# Altium footprint library BGM121A256V1.PcbLib: 1 footprints
Each footprint in its own frame and in the unit in brackets; x right, y up, seen from the top. Pads: shape width x height; smd on the part's side, far side on the other; paste and mask are expansions set on the pad; w line width, h text height; cw(c..) or ccw(c..) is an arc to the next point about the centre after c.
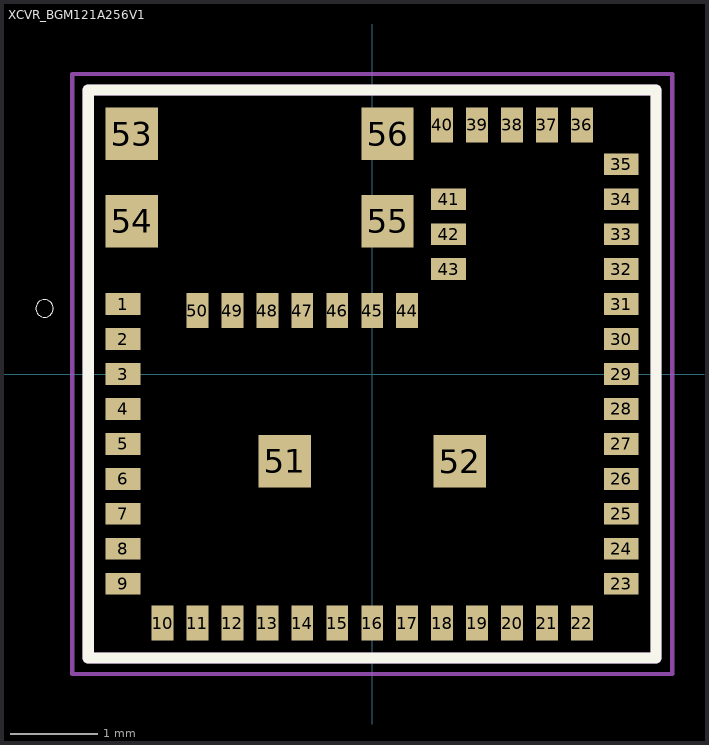
[diagram p0: the footprint, top view; thin cyan lines are the x and y axes]

## XCVR_BGM121A256V1 [mm]
pads (56):
  rect 0.4x0.25 smd: 1(-2.85,0.8) 2(-2.85,0.4) 3(-2.85,0) 4(-2.85,-0.4) 5(-2.85,-0.8) 6(-2.85,-1.2) 7(-2.85,-1.6) 8(-2.85,-2) 9(-2.85,-2.4) 23(2.85,-2.4) 24(2.85,-2) 25(2.85,-1.6) 26(2.85,-1.2) 27(2.85,-0.8) 28(2.85,-0.4) 29(2.85,0) 30(2.85,0.4) 31(2.85,0.8) 32(2.85,1.2) 33(2.85,1.6) 34(2.85,2) 35(2.85,2.4) 41(0.875,2) 42(0.875,1.6) 43(0.875,1.2)
  rect 0.25x0.4 smd: 10(-2.4,-2.85) 11(-2,-2.85) 12(-1.6,-2.85) 13(-1.2,-2.85) 14(-0.8,-2.85) 15(-0.4,-2.85) 16(0,-2.85) 17(0.4,-2.85) 18(0.8,-2.85) 19(1.2,-2.85) 20(1.6,-2.85) 21(2,-2.85) 22(2.4,-2.85) 36(2.4,2.85) 37(2,2.85) 38(1.6,2.85) 39(1.2,2.85) 40(0.8,2.85) 44(0.4,0.725) 45(0,0.725) 46(-0.4,0.725) 47(-0.8,0.725) 48(-1.2,0.725) 49(-1.6,0.725) 50(-2,0.725)
  rect 0.6x0.6 smd: 51(-1,-1) 52(1,-1) 53(-2.75,2.75) 54(-2.75,1.75) 55(0.175,1.75) 56(0.175,2.75)
Top Overlay:
  circle w0: c-3.75,0.75 r0.1
  lines w0.127: -3.25,-3.25 -3.25,3.25 3.25,3.25 3.25,-3.25 -3.25,-3.25
Mechanical 1:
  circle w0: c-2.9,0.8 r0.1
  lines w0.127: -3.25,-3.25 -3.25,3.25 3.25,3.25 3.25,-3.25 -3.25,-3.25
Mechanical 4:
  lines w0.05: -3.433,-3.433 -3.433,3.433 3.433,3.433 3.433,-3.433 -3.433,-3.433